# Altium integrated library DRV2605LDGSR.IntLib: 1 symbol
Pins are listed as number, name and electrical type; pins without a type are passive.

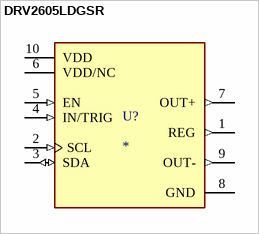
[diagram p0: symbol DRV2605LDGSR]

## DRV2605LDGSR
designator U?
Haptic driver for ERM/LRA with 2-V operation, waveform library & auto-resonance tracking; MF: Texas Instruments; MP: DRV2605LDGSR; SnapEDA_Link: https://www.snapeda.com/parts/DRV2605LDGSR/Texas+Instruments/view-part/?ref=snap; Package: VSSOP-10 Texas Instruments; Value: *; Check_prices: https://www.snapeda.com/parts/DRV2605LDGSR/Texas+Instruments/view-part/?ref=eda
footprint SOP50P490X110-10N
pins: 1 REG (out), 2 SCL (in), 3 SDA (io), 4 IN/TRIG (in), 5 EN (in), 6 VDD/NC (power), 7 OUT+ (out), 8 GND (power), 9 OUT- (out), 10 VDD (power)